# EAGLE library part BINDER_M12_RA_8 (library CONN, Panel Mount Connectors)
Binder: 99-3481-202-08
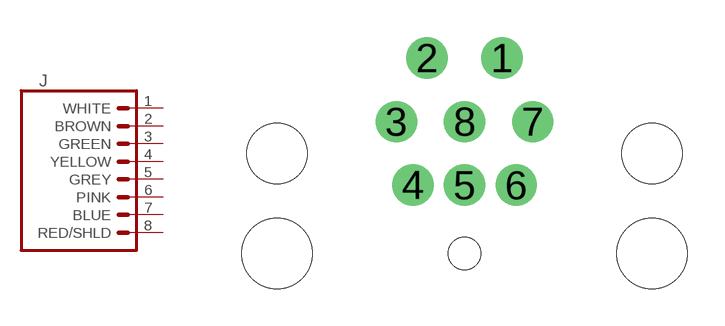
[diagram p1: symbol with the pads of BINDER_M12_RA_8; footprint BINDER_M12_RA_8]

Designator prefix J

## BINDER_M12_RA_8  [BINDER_M12_RA_8]
1  WHITE  pas
2  BROWN  pas
3  GREEN  pas
4  YELLOW  pas
5  GREY  pas
6  PINK  pas
7  BLUE  pas
8  RED/SHLD  pas

## Footprint BINDER_M12_RA_8 (pad centres in mm)
drill 1 pad 1.65: 1 1.5,3.81; 2 -1.5,3.81; 3 -2.725,1.27; 4 -2.065,-1.27; 5 0,-1.27; 6 2.065,-1.27; 7 2.725,1.27; 8 0,1.27
hole 2.4 at 7.5,0
hole 2.4 at -7.5,0
hole 2.8 at -7.5,-4
hole 2.8 at 7.5,-4
hole 1.3 at 0,-4